# EAGLE library part STM32F411RE_LQFP64 (library custom_parts)
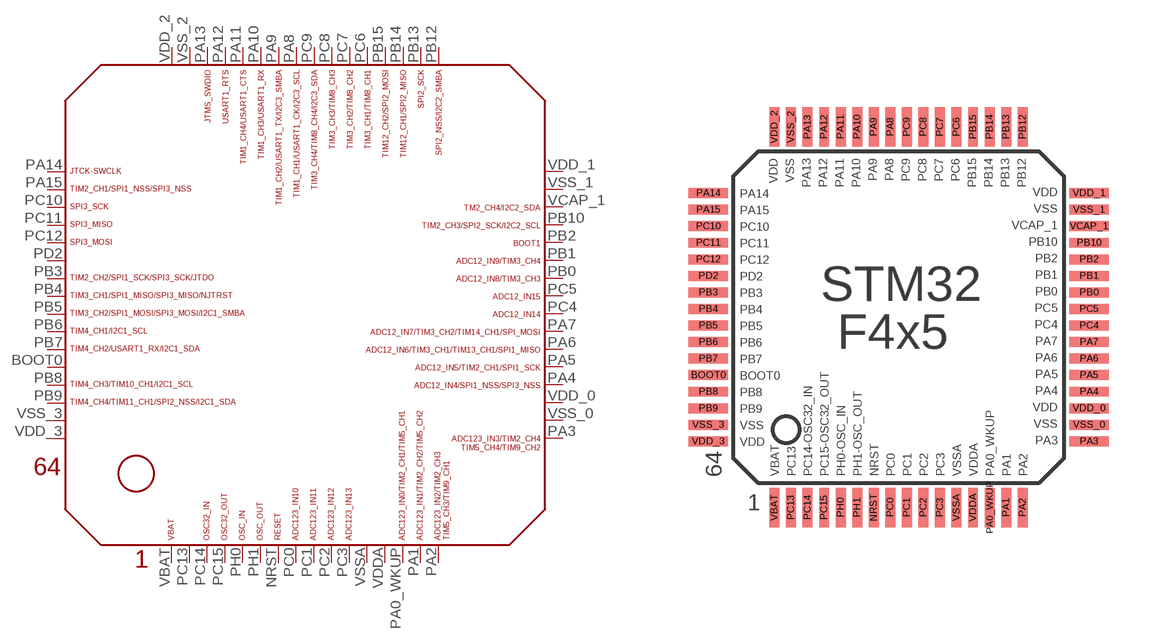
[diagram p3: symbol with the pads of STM32F411RE_LQFP64; footprint STM32F411RE_LQFP64]

Designator prefix -

## STM32F411RE_LQFP64  [STM32F411RE_LQFP64]
BOOT0  BOOT0
NRST  NRST
PA0_WKUP  PA0_AKUP
PA1  PA1
PA2  PA2
PA3  PA3
PA4  PA4
PA5  PA5
PA6  PA6
PA7  PA7
PA8  PA8
PA9  PA9
PA10  PA10
PA11  PA11
PA12  PA12
PA13  PA13
PA14  PA14
PA15  PA15
PB0  PB0
PB1  PB1
PB2  PB2
PB3  PB3
PB4  PB4
PB5  PB5
PB6  PB6
PB7  PB7
PB8  PB8
PB9  PB9
PB10  PB10
PB12  PB12
PB13  PB13
PB14  PB14
PB15  PB15
PC0  PC0
PC1  PC1
PC2  PC2
PC3  PC3
PC4  PC4
PC5  PC5
PC6  PC6
PC7  PC7
PC8  PC8
PC9  PC9
PC10  PC10
PC11  PC11
PC12  PC12
PC13  PC13
PC14  PC14
PC15  PC15
PD2  PD2
PH0  PH0
PH1  PH1
VBAT  VBAT
VCAP_1  VCAP_1
VDD_0  VDD_0
VDD_1  VDD_1
VDD_2  VDD_2
VDD_3  VDD_3
VDDA  VDDA
VSS_0  VSS_0
VSS_1  VSS_1
VSS_2  VSS_2
VSS_3  VSS_3
VSSA  VSSA

## Footprint STM32F411RE_LQFP64 (pad centres in mm)
smd 1.2 x 0.3: BOOT0 -5.75,-1.75; PA3 5.75,-3.75; PA4 5.75,-2.25; PA5 5.75,-1.75; PA6 5.75,-1.25; PA7 5.75,-0.75; PA14 -5.75,3.75; PA15 -5.75,3.25; PB0 5.75,0.75; PB1 5.75,1.25; PB2 5.75,1.75; PB3 -5.75,0.75; PB4 -5.75,0.25; PB5 -5.75,-0.25; PB6 -5.75,-0.75; PB7 -5.75,-1.25; PB8 -5.75,-2.25; PB9 -5.75,-2.75; PB10 5.75,2.25; PC4 5.75,-0.25; PC5 5.75,0.25; PC10 -5.75,2.75; PC11 -5.75,2.25; PC12 -5.75,1.75; PD2 -5.75,1.25; VCAP_1 5.75,2.75; VDD_0 5.75,-2.75; VDD_1 5.75,3.75; VDD_3 -5.75,-3.75; VSS_0 5.75,-3.25; VSS_1 5.75,3.25; VSS_3 -5.75,-3.25
smd 0.3 x 1.2: NRST -0.75,-5.75; PA0_WKUP 2.75,-5.75; PA1 3.25,-5.75; PA2 3.75,-5.75; PA8 -0.25,5.75; PA9 -0.75,5.75; PA10 -1.25,5.75; PA11 -1.75,5.75; PA12 -2.25,5.75; PA13 -2.75,5.75; PB12 3.75,5.75; PB13 3.25,5.75; PB14 2.75,5.75; PB15 2.25,5.75; PC0 -0.25,-5.75; PC1 0.25,-5.75; PC2 0.75,-5.75; PC3 1.25,-5.75; PC6 1.75,5.75; PC7 1.25,5.75; PC8 0.75,5.75; PC9 0.25,5.75; PC13 -3.25,-5.75; PC14 -2.75,-5.75; PC15 -2.25,-5.75; PH0 -1.75,-5.75; PH1 -1.25,-5.75; VBAT -3.75,-5.75; VDD_2 -3.75,5.75; VDDA 2.25,-5.75; VSS_2 -3.25,5.75; VSSA 1.75,-5.75